# EAGLE library part 3PDT (library _3pdt)
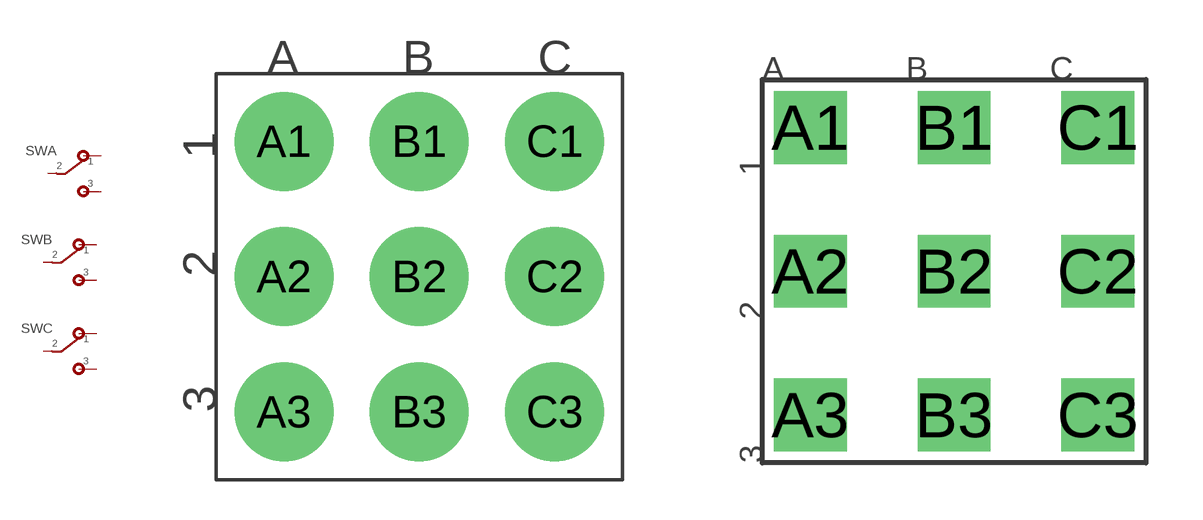
[diagram p0: symbol with the pads of 3PDT; footprints 3PDT, 3PDT_PADS]

Designator prefix SW; gates A=3PDT_ALT B=3PDT_ALT C=3PDT_ALT

## 3PDT  [3PDT]
A1  A:P$1
A2  A:P$2
A3  A:P$3
B1  B:P$1
B2  B:P$2
B3  B:P$3
C1  C:P$1
C2  C:P$2
C3  C:P$3

## 3PDTSMALLPADS  [3PDT_PADS]
Pads as for 3PDT

## Footprint 3PDT (pad centres in mm)
drill 2.7 pad 1.93 round: A1 -5.08,5.08; A2 -5.08,0; A3 -5.08,-5.08; B1 0,5.08; B2 0,0; B3 0,-5.08; C1 5.08,5.08; C2 5.08,0; C3 5.08,-5.08

## Footprint 3PDT_PADS (pad centres in mm)
drill 0.8 pad 1.93 square: A1 -3.81,3.81; A2 -3.81,0; A3 -3.81,-3.81; B1 0,3.81; B2 0,0; B3 0,-3.81; C1 3.81,3.81; C2 3.81,0; C3 3.81,-3.81